# EAGLE library part SCREWTERM_8 (library dedenbear)
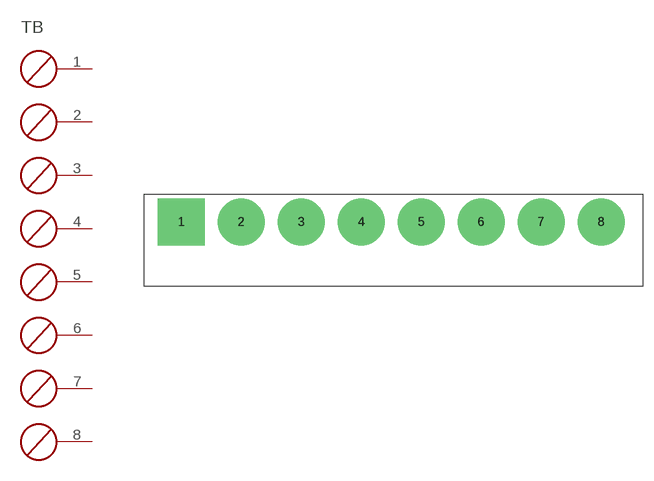
[diagram p0: symbol with the pads of TRMNL_BLK8; footprint TRMNL_BLK8]

Designator prefix TB

## SCREWTERM_8  [TRMNL_BLK8]
1  P$1  pas
2  P$2  pas
3  P$3  pas
4  P$4  pas
5  P$5  pas
6  P$6  pas
7  P$7  pas
8  P$8  pas

## Footprint TRMNL_BLK8 (pad centres in mm)
drill 1.676 pad 6.452 square: 1 0,0
drill 1.676 pad 6.452 round: 2 8.255,0; 3 16.51,0; 4 24.765,0; 5 33.02,0; 6 41.275,0; 7 49.53,0; 8 57.785,0